# Altium footprint library STM32F405RG.PcbLib: 17 footprints (part 1 of 2)
Each footprint in its own frame and in the unit in brackets; x right, y up, seen from the top. Pads: shape width x height; smd on the part's side, far side on the other; paste and mask are expansions set on the pad; w line width, h text height; cw(c..) or ccw(c..) is an arc to the next point about the centre after c.
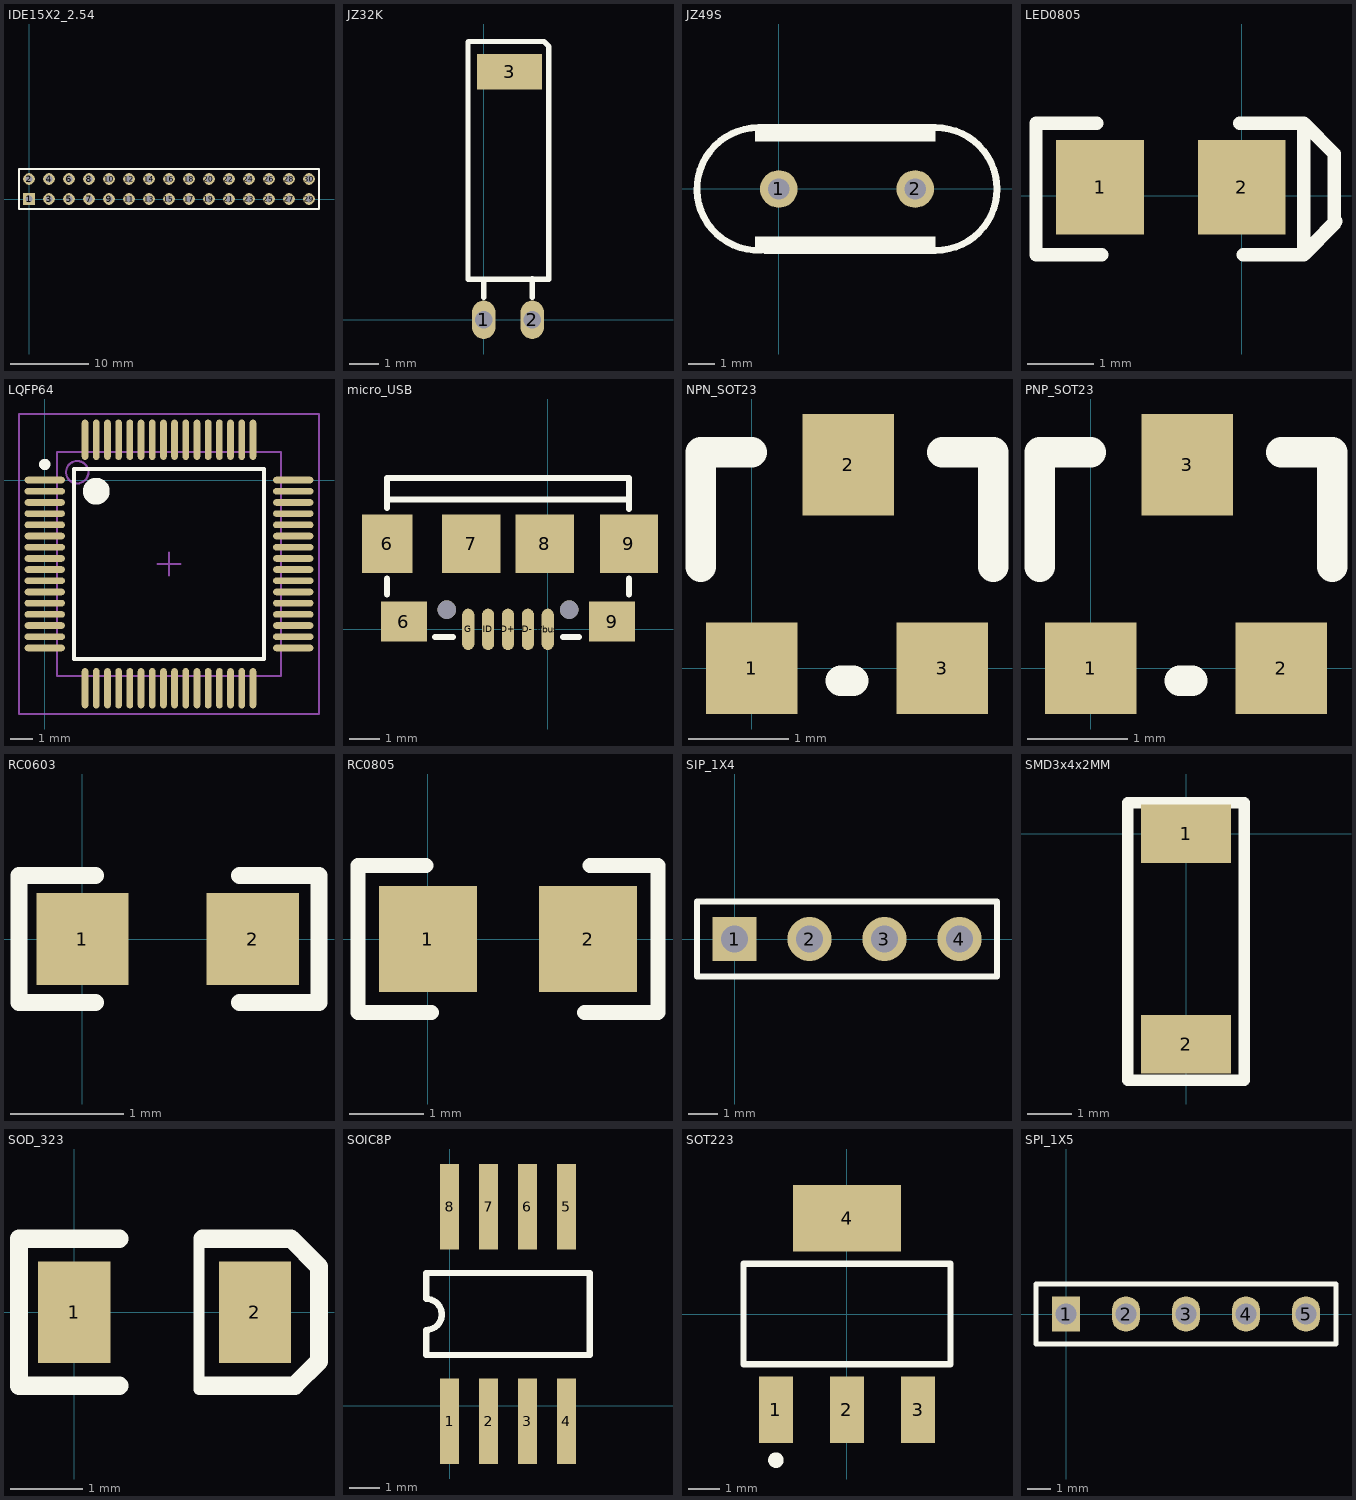
[diagram p0: the footprints below, top view; thin cyan lines are the x and y axes]

## IDE15X2_2.54 [mm]
pads (30):
  rect 1.5x1.5 hole 0.9: 1(0,0)
  round 1.5 hole 0.9: 2(0,2.54) 3(2.54,0) 4(2.54,2.54) 5(5.08,0) 6(5.08,2.54) 7(7.62,0) 8(7.62,2.54) 9(10.16,0) 10(10.16,2.54) 11(12.7,0) 12(12.7,2.54) 13(15.24,0) 14(15.24,2.54) 15(17.78,0) 16(17.78,2.54) 17(20.32,0) 18(20.32,2.54) 19(22.86,0) 20(22.86,2.54) 21(25.4,0) 22(25.4,2.54) 23(27.94,0) 24(27.94,2.54) 25(30.48,0) 26(30.48,2.54) 27(33.02,0) 28(33.02,2.54) 29(35.56,0) 30(35.56,2.54)
Top Overlay:
  lines w0.2: -1.27,-1.27 36.83,-1.27 36.83,3.81 -1.27,3.81 -1.27,-1.27

## JZ32K [mm]
pads (3):
  oval 0.8x1.3 hole 0.6: 1(0,0) 2(1.64,0)
  rect 2.2x1.2 smd: 3(0.875,8.382)
Top Overlay:
  lines w0.178: 0,0.762 0,1.37 ; 1.64,0.762 1.64,1.386 ; -0.53,1.37 -0.53,8.77 -0.53,9.376 -0.508,9.398 2.032,9.398 2.2,9.23 2.2,8.77 2.2,1.37 -0.53,1.37

## JZ49S [mm]
pads (2):
  round 1.4 hole 0.8: 1(0,0) 2(5.08,0)
Top Overlay:
  region: 5.842,2.286 -0.889,2.286 -0.889,1.778 5.842,1.778
  region: 5.842,-1.778 -0.889,-1.778 -0.889,-2.286 5.842,-2.286
  lines w0.254: -0.508,-2.286 5.842,-2.286 ccw(c5.842,0) 5.842,2.286 -0.762,2.286 ccw(c-0.762,0) -0.404,-2.258

## LED0805 [mil]
pads (2):
  rect 52x56 smd: 1(-84,5) 2(0,5)
Top Overlay:
  lines w8: -86,43 -122,43 -122,-35 -83,-35 ; -1,43 37,43 ; 1,-35 37,-35 ; 42,-29 56,-15 ; 37,-35 55,-17 55,25 37,43 ; 37,-35 37,43

## LQFP64 [mm]
height 5.6
pads (64):
  oval 1.8x0.3 smd: 1(0,0) 2(0,-0.5) 3(0,-1) 4(0,-1.5) 5(0,-2) 6(0,-2.5) 7(0,-3) 8(0,-3.5) 9(0,-4) 10(0,-4.5) 11(0,-5) 12(0,-5.5) 13(0,-6) 14(0,-6.5) 15(0,-7) 16(0,-7.5) 33(11.1,-7.5) 34(11.1,-7) 35(11.1,-6.5) 36(11.1,-6) 37(11.1,-5.5) 38(11.1,-5) 39(11.1,-4.5) 40(11.1,-4) 41(11.1,-3.5) 42(11.1,-3) 43(11.1,-2.5) 44(11.1,-2) 45(11.1,-1.5) 46(11.1,-1) 47(11.1,-0.5) 48(11.1,0)
  oval 0.3x1.8 smd: 17(1.8,-9.3) 18(2.3,-9.3) 19(2.8,-9.3) 20(3.3,-9.3) 21(3.8,-9.3) 22(4.3,-9.3) 23(4.8,-9.3) 24(5.3,-9.3) 25(5.8,-9.3) 26(6.3,-9.3) 27(6.8,-9.3) 28(7.3,-9.3) 29(7.8,-9.3) 30(8.3,-9.3) 31(8.8,-9.3) 32(9.3,-9.3) 49(9.3,1.8) 50(8.8,1.8) 51(8.3,1.8) 52(7.8,1.8) 53(7.3,1.8) 54(6.8,1.8) 55(6.3,1.8) 56(5.8,1.8) 57(5.3,1.8) 58(4.8,1.8) 59(4.3,1.8) 60(3.8,1.8) 61(3.3,1.8) 62(2.8,1.8) 63(2.3,1.8) 64(1.8,1.8)
Top Overlay:
  circle w0.25: c0,0.7 r0.125
  circle w0.6: c2.3,-0.5 r0.3
  lines w0.178: 1.3,-8 1.3,0.5 9.8,0.5 9.8,-8 1.3,-8
Mechanical 13:
  circle w0.1: c1.45,0.35 r0.5
  lines w0.1: 0.55,-8.75 0.55,1.25 10.55,1.25 10.55,-8.75 0.55,-8.75
Mechanical 15:
  lines w0.1: 5.05,-3.75 6.05,-3.75 ; 5.55,-4.25 5.55,-3.25 ; -1.15,-10.45 -1.15,2.95 12.25,2.95 12.25,-10.45 -1.15,-10.45
3D body: height 1.6, standoff 0, extent 0.55,-8.75 10.55,1.25

## micro_USB [mm]
pads (13):
  rect 1.651x1.9 smd: 6(-5.25,2.794)
  rect 1.5x1.3 smd: 6(-4.699,0.254) 9(2.099,0.254)
  rect 1.9x1.9 smd: 7(-2.5,2.794) 8(-0.1,2.794) 9(2.65,2.794)
  oval 0.4x1.35 smd: D+(-1.3,0) D-(-0.65,0) G(-2.6,0) ID(-1.95,0) Vbus(0,0)
  round 0.6 hole 0.6: ""(-3.3,0.644) ""(0.7,0.644)
Top Overlay:
  lines w0.2: -5.25,1.143 -5.25,1.651 ; -5.25,3.963 -5.25,4.944 2.65,4.944 2.65,3.937 ; -5.197,4.244 2.65,4.244 ; -3.683,-0.254 -3.091,-0.254 ; 0.491,-0.254 1.016,-0.254 ; 2.65,1.143 2.65,1.651

## NPN_SOT23 [mil]
pads (3):
  rect 36x36 smd: 1(0,0) 3(75,0)
  rect 36x40 smd: 2(38,80)
Top Overlay:
  lines w12: -20,40 -20,85 0,85 ; 35,-5 40,-5 ; 75,85 95,85 95,40

## PNP_SOT23 [mil]
pads (3):
  rect 36x36 smd: 1(0,0) 2(75,0)
  rect 36x40 smd: 3(38,80)
Top Overlay:
  lines w12: -20,40 -20,85 0,85 ; 35,-5 40,-5 ; 75,85 95,85 95,40

## RC0603 [mil]
pads (2):
  rect 32x32 smd: 1(0,0) 2(59,0)
Top Overlay:
  lines w6: 4.5,-22 -22,-22 -22,22 4.5,22 ; 54.5,-22 82,-22 82,22 54.5,22

## RC0805 [mil]
pads (2):
  rect 52x56 smd: 1(0,0) 2(85,0)
Top Overlay:
  lines w8: -1,39 -37,39 -37,-39 2,-39 ; 83,-39 122,-39 122,39 86,39

## SIP_1X4 [mm] "Connector; Header; 4 Position"
pads (4):
  rect 1.5x1.5 hole 0.9: 1(0,0)
  round 1.5 hole 0.9: 2(2.54,0) 3(5.08,0) 4(7.62,0)
Top Overlay:
  lines w0.2: -1.27,-1.27 8.89,-1.27 8.89,1.27 -1.27,1.27 -1.27,-1.27

## SMD3x4x2MM [mm]
pads (2):
  rect 2x1.3 smd paste+0 mask+0.2: 1(0,0) 2(0,-4.7)
Top Overlay:
  lines w0.254: -1.3,-5.505 -1.3,0.695 1.3,0.695 1.3,-5.505 -1.3,-5.505
Mechanical 1:
  lines w0.025: -1.3,-5.405 -1.3,0.695 1.3,0.695 1.3,-5.405 -1.3,-5.405
Mechanical 2:
  lines w0.003: -1.3,-5.405 -1.3,0.695 1.3,0.695 1.3,-5.405 -1.3,-5.405

## SOD_323 [mm]
pads (2):
  rect 1x1.4 smd: 1(0,0) 2(2.5,0)
Top Overlay:
  lines w0.152: 1.727,-1.067 1.727,0.965
  lines w0.254: 0.624,-1.016 -0.762,-1.016 -0.762,1.016 0.624,1.016 ; 1.778,-1.016 3.048,-1.016 3.385,-0.679 3.385,0.628 2.997,1.016 1.778,1.016

## SOIC8P [mil]
height 220.47
pads (8):
  rect 24x110 smd: 1(0,-20) 2(50,-20) 3(100,-20) 4(150,-20) 5(150,255) 6(100,255) 7(50,255) 8(0,255)
Top Overlay:
  lines w8: -30,65 180,65 180,170 -30,170 -30,137 cw(c-30,117) -30,97 -30,65

## SOT223 [mm] "SOT-223/SC-73; 4 Leads; Body 6.7 x 7.3 mm, inc. leads (LxW max)"
height 1.8
pads (4):
  rect 1.1x2.15 smd: 1(-2.3,-3.1) 2(0,-3.1) 3(2.3,-3.1)
  rect 3.5x2.15 smd: 4(0,3.1)
Top Overlay:
  circle w0.25: c-2.3,-4.725 r0.125
  lines w0.2: -3.35,-1.625 -3.35,1.625 3.35,1.625 3.35,-1.625 -3.35,-1.625

## SPI_1X5 [mm]
pads (5):
  rect 1.2x1.5 hole 0.9: 1(0,0)
  oval 1.2x1.5 hole 0.9: 2(2.54,0) 3(5.08,0) 4(7.62,0) 5(10.16,0)
Top Overlay:
  lines w0.2: -1.27,-1.27 -1.27,1.27 11.43,1.27 11.43,-1.27 -1.27,-1.27